# Altium integrated library Transistor.IntLib: 3457 symbols (part 46 of 78)
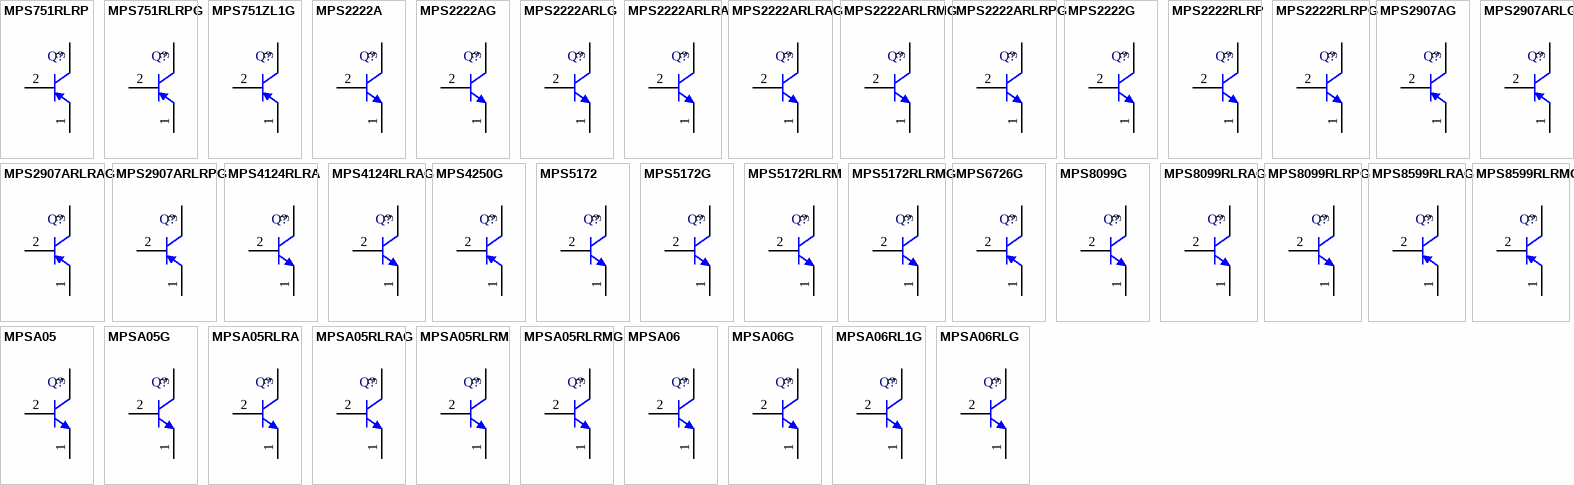
[diagram p139: symbols MPS751RLRP to MPSA06RLG]

## MPSA05G
designator Q?
Amplifier Transistor, 3-Pin TO-92, Pb-Free, Bulk Box; Manufacturer: On Semiconductor; PartNumber: MPSA05G; fT Min (MHz): 100; IC Continuous (A): 0.5; Polarity: NPN; DatasheetVersion: Rev. 3; PackageVersion: Rev. AM; PackageReference: TO-92-3-29-11_AM_SL; PackageDescription: 3-Pin Transistor Outline, Body 4.825 x 3.685 mm, Pitch 1.27 mm; Supplier 1: Digi-Key; Supplier Part Number 1: MPSA05GOS-ND; Supplier 2: Farnell; Supplier Part Number 2: 1147709; Supplier 3: Newark; Supplier Part Number 3: 42K1441; Supplier 4: Mouser; Supplier Part Number 4: 863-MPSA05G; Packing: Bulk Box; RoHS: TRUE; Mounting Technology: Through Hole; ComponentLink1Description: Manufacturer URL; ComponentLink1URL: http://www.onsemi.com/; ComponentLink2Description: Datasheet; ComponentLink2URL: http://www.onsemi.cn/pub_link/Collateral/MPSA05-D.PDF; ComponentLink3Description: Package Specification; ComponentLink3URL: http://www.onsemi.cn/pub_link/Collateral/2N6426-D.PDF
footprint ONSC-TO-92-3-29-11 (TO, 3-Leads, Body Dia 4.7mm, Pitch 1.27mm)
pins: 1 E, 2 B, 3 C

## MPSA05RLRA
designator Q?
Amplifier Transistor, 3-Pin TO-92, Tape and Reel; Manufacturer: On Semiconductor; PartNumber: MPSA05RLRA; fT Min (MHz): 100; IC Continuous (A): 0.5; Polarity: NPN; DatasheetVersion: Rev. 3; PackageVersion: Rev. AM; PackageReference: TO-92-3-29-11_AM_BL; PackageDescription: 3-Pin Transistor Outline, Body 4.825 x 3.685 mm, Pitch 1.27 mm; Supplier 1: Digi-Key; Supplier Part Number 1: MPSA05RLRAOSCT-ND; Packing: Tape and Reel; RoHS: FALSE; Mounting Technology: Through Hole; ComponentLink1Description: Manufacturer URL; ComponentLink1URL: http://www.onsemi.com/; ComponentLink2Description: Datasheet; ComponentLink2URL: http://www.onsemi.cn/pub_link/Collateral/MPSA05-D.PDF; ComponentLink3Description: Package Specification; ComponentLink3URL: http://www.onsemi.com/pub_link/Collateral/MAC97-D.PDF
footprint ONSC-TO-92-3-29-11_AM_BL (TO, 3-Leads, Body Dia 4.7mm, Pitch 2.6mm)
pins: 1 E, 2 B, 3 C

## MPSA05RLRAG
designator Q?
Amplifier Transistor, 3-Pin TO-92, Pb-Free, Tape and Reel; Manufacturer: On Semiconductor; PartNumber: MPSA05RLRAG; fT Min (MHz): 100; IC Continuous (A): 0.5; Polarity: NPN; DatasheetVersion: Rev. 3; PackageVersion: Rev. AM; PackageReference: TO-92-3-29-11_AM_BL; PackageDescription: 3-Pin Transistor Outline, Body 4.825 x 3.685 mm, Pitch 1.27 mm; Supplier 1: Digi-Key; Supplier Part Number 1: MPSA05RLRAGOSTR-ND; Supplier 2: Digi-Key; Supplier Part Number 2: MPSA05RLRAGOSCT-ND; Supplier 3: Farnell; Supplier Part Number 3: 1899540; Supplier 4: Farnell; Supplier Part Number 4: 1273207; Supplier 5: Newark; Supplier Part Number 5: 26K4616; Supplier 6: Newark; Supplier Part Number 6: 84K8804; Supplier 7: Mouser; Supplier Part Number 7: 863-MPSA05RLRAG; Packing: Tape and Reel; RoHS: TRUE; Mounting Technology: Through Hole; ComponentLink1Description: Manufacturer URL; ComponentLink1URL: http://www.onsemi.com/; ComponentLink2Description: Datasheet; ComponentLink2URL: http://www.onsemi.cn/pub_link/Collateral/MPSA05-D.PDF; ComponentLink3Description: Package Specification; ComponentLink3URL: http://www.onsemi.com/pub_link/Collateral/MAC97-D.PDF
footprint ONSC-TO-92-3-29-11_AM_BL (TO, 3-Leads, Body Dia 4.7mm, Pitch 2.6mm)
pins: 1 E, 2 B, 3 C

## MPSA05RLRM
designator Q?
60 V, 0.5 A, Amplifier Transistor, NPN Transistor, 3-Pin TO-92, Ammo Box; Manufacturer: On Semiconductor; PartNumber: MPSA05RLRM; Note: 0; fT Min (MHz): 100; IC Continuous (A): 0.5; DatasheetVersion: Rev. 3; PackageVersion: Rev. AM; PackageReference: TO-92-3-29-11_AM_BL; PackageDescription: 3-Pin Transistor Outline, Body 4.825 x 3.685 mm, Pitch 1.27 mm; Packing: Ammo Box; Polarity: NPN; RoHS: FALSE; Mounting Technology: Through Hole; ComponentLink1Description: Manufacturer URL; ComponentLink1URL: http://www.onsemi.com/; ComponentLink2Description: Datasheet; ComponentLink2URL: http://www.onsemi.cn/pub_link/Collateral/MPSA05-D.PDF; ComponentLink3Description: Package Specification; ComponentLink3URL: http://www.onsemi.com/pub_link/Collateral/MAC97-D.PDF
footprint ONSC-TO-92-3-29-11_AM_BL (TO, 3-Leads, Body Dia 4.7mm, Pitch 2.6mm)
pins: 1 E, 2 B, 3 C

## MPSA05RLRMG
designator Q?
60 V, 0.5 A, Amplifier Transistor, NPN Transistor, 3-Pin TO-92, Pb-Free, Ammo Box; Manufacturer: On Semiconductor; PartNumber: MPSA05RLRMG; fT Min (MHz): 100; IC Continuous (A): 0.5; DatasheetVersion: Rev. 3; PackageVersion: Rev. AM; PackageReference: TO-92-3-29-11_AM_SL; PackageDescription: 3-Pin Transistor Outline, Body 4.825 x 3.685 mm, Pitch 1.27 mm; Supplier 1: Digi-Key; Supplier Part Number 1: MPSA05RLRMGOSTB-ND; Supplier 2: Digi-Key; Supplier Part Number 2: MPSA05RLRMGOSCT-ND; Supplier 3: Mouser; Supplier Part Number 3: 863-MPSA05RLRMG; Packing: Ammo Box; Polarity: NPN; RoHS: TRUE; Mounting Technology: Through Hole; ComponentLink1Description: Manufacturer URL; ComponentLink1URL: http://www.onsemi.com/; ComponentLink2Description: Datasheet; ComponentLink2URL: http://www.onsemi.cn/pub_link/Collateral/MPSA05-D.PDF; ComponentLink3Description: Package Specification; ComponentLink3URL: http://www.onsemi.cn/pub_link/Collateral/2N6426-D.PDF
footprint ONSC-TO-92-3-29-11 (TO, 3-Leads, Body Dia 4.7mm, Pitch 1.27mm)
pins: 1 E, 2 B, 3 C

## MPSA06
designator Q?
Amplifier Transistor, 3-Pin TO-92, Bulk Box; Manufacturer: On Semiconductor; PartNumber: MPSA06; Note: 0; fT Min (MHz): 100; IC Continuous (A): 0.5; Polarity: NPN; DatasheetVersion: Rev. 3; PackageVersion: Rev. AM; PackageReference: TO-92-3-29-11_AM_SL; PackageDescription: 3-Pin Transistor Outline, Body 4.825 x 3.685 mm, Pitch 1.27 mm; Packing: Bulk Box; RoHS: FALSE; Mounting Technology: Through Hole; ComponentLink1Description: Manufacturer URL; ComponentLink1URL: http://www.onsemi.com/; ComponentLink2Description: Datasheet; ComponentLink2URL: http://www.onsemi.cn/pub_link/Collateral/MPSA05-D.PDF; ComponentLink3Description: Package Specification; ComponentLink3URL: http://www.onsemi.cn/pub_link/Collateral/2N6426-D.PDF
footprint ONSC-TO-92-3-29-11 (TO, 3-Leads, Body Dia 4.7mm, Pitch 1.27mm)
pins: 1 E, 2 B, 3 C

## MPSA06G
designator Q?
Amplifier Transistor, 3-Pin TO-92, Pb-Free, Bulk Box; Manufacturer: On Semiconductor; PartNumber: MPSA06G; fT Min (MHz): 100; IC Continuous (A): 0.5; Polarity: NPN; DatasheetVersion: Rev. 3; PackageVersion: Rev. AM; PackageReference: TO-92-3-29-11_AM_SL; PackageDescription: 3-Pin Transistor Outline, Body 4.825 x 3.685 mm, Pitch 1.27 mm; Supplier 1: Digi-Key; Supplier Part Number 1: MPSA06GOS-ND; Supplier 2: Farnell; Supplier Part Number 2: 1126472; Supplier 3: Newark; Supplier Part Number 3: 45J1642; Supplier 4: Mouser; Supplier Part Number 4: 863-MPSA06G; Packing: Bulk Box; RoHS: TRUE; Mounting Technology: Through Hole; ComponentLink1Description: Manufacturer URL; ComponentLink1URL: http://www.onsemi.com/; ComponentLink2Description: Datasheet; ComponentLink2URL: http://www.onsemi.cn/pub_link/Collateral/MPSA05-D.PDF; ComponentLink3Description: Package Specification; ComponentLink3URL: http://www.onsemi.cn/pub_link/Collateral/2N6426-D.PDF
footprint ONSC-TO-92-3-29-11 (TO, 3-Leads, Body Dia 4.7mm, Pitch 1.27mm)
pins: 1 E, 2 B, 3 C

## MPSA06RL1G
designator Q?
Amplifier Transistor, 3-Pin TO-92, Pb-Free, Tape and Reel; Manufacturer: On Semiconductor; PartNumber: MPSA06RL1G; fT Min (MHz): 100; IC Continuous (A): 0.5; Polarity: NPN; DatasheetVersion: Rev. 3; PackageVersion: Rev. AM; PackageReference: TO-92-3-29-11_AM_BL; PackageDescription: 3-Pin Transistor Outline, Body 4.825 x 3.685 mm, Pitch 1.27 mm; Supplier 1: Digi-Key; Supplier Part Number 1: MPSA06RL1GOSTR-ND; Supplier 2: Digi-Key; Supplier Part Number 2: MPSA06RL1GOSCT-ND; Supplier 3: Newark; Supplier Part Number 3: 85W2297; Supplier 4: Mouser; Supplier Part Number 4: 863-MPSA06RL1G; Packing: Tape and Reel; RoHS: TRUE; Mounting Technology: Through Hole; ComponentLink1Description: Manufacturer URL; ComponentLink1URL: http://www.onsemi.com/; ComponentLink2Description: Datasheet; ComponentLink2URL: http://www.onsemi.cn/pub_link/Collateral/MPSA05-D.PDF; ComponentLink3Description: Package Specification; ComponentLink3URL: http://www.onsemi.com/pub_link/Collateral/MAC97-D.PDF
footprint ONSC-TO-92-3-29-11_AM_BL (TO, 3-Leads, Body Dia 4.7mm, Pitch 2.6mm)
pins: 1 E, 2 B, 3 C

## MPSA06RLG
designator Q?
Amplifier Transistor, 3-Pin TO-92, Pb-Free, Tape and Reel; Manufacturer: On Semiconductor; PartNumber: MPSA06RLG; fT Min (MHz): 100; IC Continuous (A): 0.5; Polarity: NPN; DatasheetVersion: Rev. 3; PackageVersion: Rev. AM; PackageReference: TO-92-3-29-11_AM_BL; PackageDescription: 3-Pin Transistor Outline, Body 4.825 x 3.685 mm, Pitch 1.27 mm; Supplier 1: Digi-Key; Supplier Part Number 1: MPSA06RLG-ND; Supplier 2: Newark; Supplier Part Number 2: 42K1442; Supplier 3: Mouser; Supplier Part Number 3: 863-MPSA06RLG; Packing: Tape and Reel; RoHS: TRUE; Mounting Technology: Through Hole; ComponentLink1Description: Manufacturer URL; ComponentLink1URL: http://www.onsemi.com/; ComponentLink2Description: Datasheet; ComponentLink2URL: http://www.onsemi.cn/pub_link/Collateral/MPSA05-D.PDF; ComponentLink3Description: Package Specification; ComponentLink3URL: http://www.onsemi.com/pub_link/Collateral/MAC97-D.PDF
footprint ONSC-TO-92-3-29-11_AM_BL (TO, 3-Leads, Body Dia 4.7mm, Pitch 2.6mm)
pins: 1 E, 2 B, 3 C

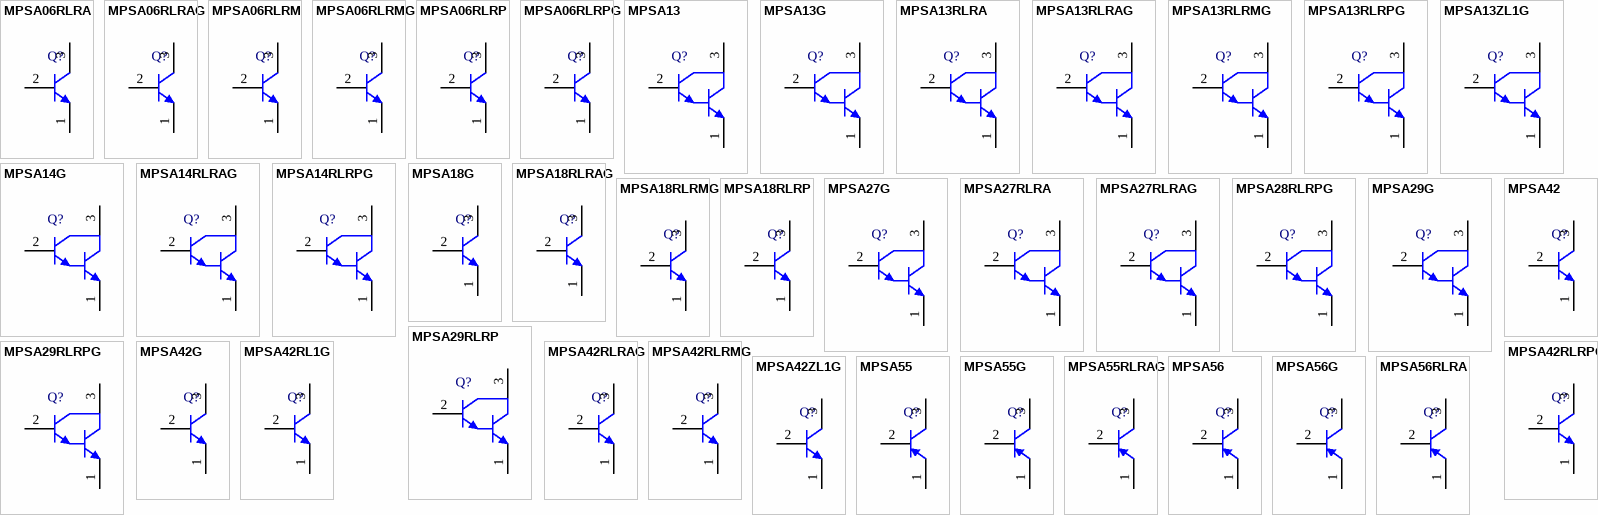
[diagram p54: symbols MPSA06RLRA to MPSA56RLRA]

## MPSA06RLRA
designator Q?
Amplifier Transistor, 3-Pin TO-92, Tape and Reel; Manufacturer: On Semiconductor; PartNumber: MPSA06RLRA; fT Min (MHz): 100; IC Continuous (A): 0.5; Polarity: NPN; DatasheetVersion: Rev. 3; PackageVersion: Rev. AM; PackageReference: TO-92-3-29-11_AM_BL; PackageDescription: 3-Pin Transistor Outline, Body 4.825 x 3.685 mm, Pitch 1.27 mm; Supplier 1: Digi-Key; Supplier Part Number 1: MPSA06RLRAOSCT-ND; Packing: Tape and Reel; RoHS: FALSE; Mounting Technology: Through Hole; ComponentLink1Description: Manufacturer URL; ComponentLink1URL: http://www.onsemi.com/; ComponentLink2Description: Datasheet; ComponentLink2URL: http://www.onsemi.cn/pub_link/Collateral/MPSA05-D.PDF; ComponentLink3Description: Package Specification; ComponentLink3URL: http://www.onsemi.com/pub_link/Collateral/MAC97-D.PDF
footprint ONSC-TO-92-3-29-11_AM_BL (TO, 3-Leads, Body Dia 4.7mm, Pitch 2.6mm)
pins: 1 E, 2 B, 3 C

## MPSA06RLRAG
designator Q?
Amplifier Transistor, 3-Pin TO-92, Pb-Free, Tape and Reel; Manufacturer: On Semiconductor; PartNumber: MPSA06RLRAG; fT Min (MHz): 100; IC Continuous (A): 0.5; Polarity: NPN; DatasheetVersion: Rev. 3; PackageVersion: Rev. AM; PackageReference: TO-92-3-29-11_AM_BL; PackageDescription: 3-Pin Transistor Outline, Body 4.825 x 3.685 mm, Pitch 1.27 mm; Supplier 1: Digi-Key; Supplier Part Number 1: MPSA06RLRAGOSTR-ND; Supplier 2: Digi-Key; Supplier Part Number 2: MPSA06RLRAGOSCT-ND; Supplier 3: Farnell; Supplier Part Number 3: 1150497; Supplier 4: Newark; Supplier Part Number 4: 45J1643; Supplier 5: Newark; Supplier Part Number 5: 67R1380; Supplier 6: Mouser; Supplier Part Number 6: 863-MPSA06RLRAG; Packing: Tape and Reel; RoHS: TRUE; Mounting Technology: Through Hole; ComponentLink1Description: Manufacturer URL; ComponentLink1URL: http://www.onsemi.com/; ComponentLink2Description: Datasheet; ComponentLink2URL: http://www.onsemi.cn/pub_link/Collateral/MPSA05-D.PDF; ComponentLink3Description: Package Specification; ComponentLink3URL: http://www.onsemi.com/pub_link/Collateral/MAC97-D.PDF
footprint ONSC-TO-92-3-29-11_AM_BL (TO, 3-Leads, Body Dia 4.7mm, Pitch 2.6mm)
pins: 1 E, 2 B, 3 C

## MPSA06RLRM
designator Q?
80 V, 0.5 A, Amplifier Transistor, NPN Transistor, 3-Pin TO-92, Ammo Box; Manufacturer: On Semiconductor; PartNumber: MPSA06RLRM; Note: 0; fT Min (MHz): 100; IC Continuous (A): 0.5; DatasheetVersion: Rev. 3; PackageVersion: Rev. AM; PackageReference: TO-92-3-29-11_AM_BL; PackageDescription: 3-Pin Transistor Outline, Body 4.825 x 3.685 mm, Pitch 1.27 mm; Packing: Ammo Box; Polarity: NPN; RoHS: FALSE; Mounting Technology: Through Hole; ComponentLink1Description: Manufacturer URL; ComponentLink1URL: http://www.onsemi.com/; ComponentLink2Description: Datasheet; ComponentLink2URL: http://www.onsemi.cn/pub_link/Collateral/MPSA05-D.PDF; ComponentLink3Description: Package Specification; ComponentLink3URL: http://www.onsemi.com/pub_link/Collateral/MAC97-D.PDF
footprint ONSC-TO-92-3-29-11_AM_BL (TO, 3-Leads, Body Dia 4.7mm, Pitch 2.6mm)
pins: 1 E, 2 B, 3 C

## MPSA06RLRMG
designator Q?
80 V, 0.5 A, Amplifier Transistor, NPN Transistor, 3-Pin TO-92, Pb-Free, Ammo Box; Manufacturer: On Semiconductor; PartNumber: MPSA06RLRMG; fT Min (MHz): 100; IC Continuous (A): 0.5; DatasheetVersion: Rev. 3; PackageVersion: Rev. AM; PackageReference: TO-92-3-29-11_AM_BL; PackageDescription: 3-Pin Transistor Outline, Body 4.825 x 3.685 mm, Pitch 1.27 mm; Supplier 1: Digi-Key; Supplier Part Number 1: MPSA06RLRMGOSTB-ND; Supplier 2: Digi-Key; Supplier Part Number 2: MPSA06RLRMGOSCT-ND; Supplier 3: Newark; Supplier Part Number 3: 71J6097; Supplier 4: Mouser; Supplier Part Number 4: 863-MPSA06RLRMG; Packing: Ammo Box; Polarity: NPN; RoHS: TRUE; Mounting Technology: Through Hole; ComponentLink1Description: Manufacturer URL; ComponentLink1URL: http://www.onsemi.com/; ComponentLink2Description: Datasheet; ComponentLink2URL: http://www.onsemi.cn/pub_link/Collateral/MPSA05-D.PDF; ComponentLink3Description: Package Specification; ComponentLink3URL: http://www.onsemi.com/pub_link/Collateral/MAC97-D.PDF
footprint ONSC-TO-92-3-29-11_AM_BL (TO, 3-Leads, Body Dia 4.7mm, Pitch 2.6mm)
pins: 1 E, 2 B, 3 C

## MPSA06RLRP
designator Q?
80 V, 0.5 A, Amplifier Transistor, NPN Transistor, 3-Pin TO-92, Ammo Box; Manufacturer: On Semiconductor; PartNumber: MPSA06RLRP; Note: 0; fT Min (MHz): 100; IC Continuous (A): 0.5; DatasheetVersion: Rev. 3; PackageVersion: Rev. AM; PackageReference: TO-92-3-29-11_AM_BL; PackageDescription: 3-Pin Transistor Outline, Body 4.825 x 3.685 mm, Pitch 1.27 mm; Packing: Ammo Box; Polarity: NPN; RoHS: FALSE; Mounting Technology: Through Hole; ComponentLink1Description: Manufacturer URL; ComponentLink1URL: http://www.onsemi.com/; ComponentLink2Description: Datasheet; ComponentLink2URL: http://www.onsemi.cn/pub_link/Collateral/MPSA05-D.PDF; ComponentLink3Description: Package Specification; ComponentLink3URL: http://www.onsemi.com/pub_link/Collateral/MAC97-D.PDF
footprint ONSC-TO-92-3-29-11_AM_BL (TO, 3-Leads, Body Dia 4.7mm, Pitch 2.6mm)
pins: 1 E, 2 B, 3 C

## MPSA06RLRPG
designator Q?
80 V, 0.5 A, Amplifier Transistor, NPN Transistor, 3-Pin TO-92, Pb-Free, Ammo Box; Manufacturer: On Semiconductor; PartNumber: MPSA06RLRPG; fT Min (MHz): 100; IC Continuous (A): 0.5; DatasheetVersion: Rev. 3; PackageVersion: Rev. AM; PackageReference: TO-92-3-29-11_AM_BL; PackageDescription: 3-Pin Transistor Outline, Body 4.825 x 3.685 mm, Pitch 1.27 mm; Supplier 1: Digi-Key; Supplier Part Number 1: MPSA06RLRPG-ND; Supplier 2: Mouser; Supplier Part Number 2: 863-MPSA06RLRPG; Packing: Ammo Box; Polarity: NPN; RoHS: TRUE; Mounting Technology: Through Hole; ComponentLink1Description: Manufacturer URL; ComponentLink1URL: http://www.onsemi.com/; ComponentLink2Description: Datasheet; ComponentLink2URL: http://www.onsemi.cn/pub_link/Collateral/MPSA05-D.PDF; ComponentLink3Description: Package Specification; ComponentLink3URL: http://www.onsemi.com/pub_link/Collateral/MAC97-D.PDF
footprint ONSC-TO-92-3-29-11_AM_BL (TO, 3-Leads, Body Dia 4.7mm, Pitch 2.6mm)
pins: 1 E, 2 B, 3 C

## MPSA13
designator Q?
Darlington Transistor, NPN Silicon, 3-Pin TO-92, Bulk Box; Manufacturer: On Semiconductor; PartNumber: MPSA13; Note: 0; IC Continuous (A): 0.5; DatasheetVersion: Rev. 4; PackageVersion: Rev. AM; PackageReference: TO-92-3-29-11_AM_SL; PackageDescription: 3-Pin Transistor Outline, Body 4.825 x 3.685 mm, Pitch 1.27 mm; Packing: Bulk Box; Polarity: NPN; RoHS: FALSE; Mounting Technology: Through Hole; ComponentLink1Description: Manufacturer URL; ComponentLink1URL: http://www.onsemi.com/; ComponentLink2Description: Datasheet; ComponentLink2URL: http://www.onsemi.cn/pub_link/Collateral/MPSA13-D.PDF; ComponentLink3Description: Package Specification; ComponentLink3URL: http://www.onsemi.cn/pub_link/Collateral/2N6426-D.PDF
footprint ONSC-TO-92-3-29-11 (TO, 3-Leads, Body Dia 4.7mm, Pitch 1.27mm)
pins: 1 E, 2 B, 3 C

## MPSA13G
designator Q?
Darlington Transistor, NPN Silicon, 3-Pin TO-92, Pb-Free, Bulk Box; Manufacturer: On Semiconductor; PartNumber: MPSA13G; IC Continuous (A): 0.5; DatasheetVersion: Rev. 4; PackageVersion: Rev. AM; PackageReference: TO-92-3-29-11_AM_SL; PackageDescription: 3-Pin Transistor Outline, Body 4.825 x 3.685 mm, Pitch 1.27 mm; Supplier 1: Digi-Key; Supplier Part Number 1: MPSA13GOS-ND; Supplier 2: Farnell; Supplier Part Number 2: 1459126; Supplier 3: Newark; Supplier Part Number 3: 26K4618; Supplier 4: Mouser; Supplier Part Number 4: 863-MPSA13G; Packing: Bulk Box; Polarity: NPN; RoHS: TRUE; Mounting Technology: Through Hole; ComponentLink1Description: Manufacturer URL; ComponentLink1URL: http://www.onsemi.com/; ComponentLink2Description: Datasheet; ComponentLink2URL: http://www.onsemi.cn/pub_link/Collateral/MPSA13-D.PDF; ComponentLink3Description: Package Specification; ComponentLink3URL: http://www.onsemi.cn/pub_link/Collateral/2N6426-D.PDF
footprint ONSC-TO-92-3-29-11 (TO, 3-Leads, Body Dia 4.7mm, Pitch 1.27mm)
pins: 1 E, 2 B, 3 C

## MPSA13RLRA
designator Q?
Darlington Transistor, NPN Silicon, 3-Pin TO-92, Tape and Reel; Manufacturer: On Semiconductor; PartNumber: MPSA13RLRA; IC Continuous (A): 0.5; DatasheetVersion: Rev. 4; PackageVersion: Rev. AM; PackageReference: TO-92-3-29-11_AM_BL; PackageDescription: 3-Pin Transistor Outline, Body 4.825 x 3.685 mm, Pitch 1.27 mm; Supplier 1: Digi-Key; Supplier Part Number 1: MPSA13RLRAOSTR-ND; Supplier 2: Digi-Key; Supplier Part Number 2: MPSA13RLRAOSCT-ND; Packing: Tape and Reel; Polarity: NPN; RoHS: FALSE; Mounting Technology: Through Hole; ComponentLink1Description: Manufacturer URL; ComponentLink1URL: http://www.onsemi.com/; ComponentLink2Description: Datasheet; ComponentLink2URL: http://www.onsemi.cn/pub_link/Collateral/MPSA13-D.PDF; ComponentLink3Description: Package Specification; ComponentLink3URL: http://www.onsemi.com/pub_link/Collateral/MAC97-D.PDF
footprint ONSC-TO-92-3-29-11_AM_BL (TO, 3-Leads, Body Dia 4.7mm, Pitch 2.6mm)
pins: 1 E, 2 B, 3 C

## MPSA13RLRAG
designator Q?
Darlington Transistor, NPN Silicon, 3-Pin TO-92, Pb-Free, Tape and Reel; Manufacturer: On Semiconductor; PartNumber: MPSA13RLRAG; IC Continuous (A): 0.5; DatasheetVersion: Rev. 4; PackageVersion: Rev. AM; PackageReference: TO-92-3-29-11_AM_BL; PackageDescription: 3-Pin Transistor Outline, Body 4.825 x 3.685 mm, Pitch 1.27 mm; Supplier 1: Digi-Key; Supplier Part Number 1: MPSA13RLRAGOSTR-ND; Supplier 2: Digi-Key; Supplier Part Number 2: MPSA13RLRAGOSCT-ND; Supplier 3: Farnell; Supplier Part Number 3: 2317864; Supplier 4: Farnell; Supplier Part Number 4: 1273208; Supplier 5: Newark; Supplier Part Number 5: 26K4619; Supplier 6: Newark; Supplier Part Number 6: 84K8805; Supplier 7: Mouser; Supplier Part Number 7: 863-MPSA13RLRAG; Packing: Tape and Reel; Polarity: NPN; RoHS: TRUE; Mounting Technology: Through Hole; ComponentLink1Description: Manufacturer URL; ComponentLink1URL: http://www.onsemi.com/; ComponentLink2Description: Datasheet; ComponentLink2URL: http://www.onsemi.cn/pub_link/Collateral/MPSA13-D.PDF; ComponentLink3Description: Package Specification; ComponentLink3URL: http://www.onsemi.com/pub_link/Collateral/MAC97-D.PDF
footprint ONSC-TO-92-3-29-11_AM_BL (TO, 3-Leads, Body Dia 4.7mm, Pitch 2.6mm)
pins: 1 E, 2 B, 3 C

## MPSA13RLRMG
designator Q?
Darlington Transistor, NPN Silicon, 3-Pin TO-92, Pb-Free, Ammo Box; Manufacturer: On Semiconductor; PartNumber: MPSA13RLRMG; IC Continuous (A): 0.5; DatasheetVersion: Rev. 4; PackageVersion: Rev. AM; PackageReference: TO-92-3-29-11_AM_BL; PackageDescription: 3-Pin Transistor Outline, Body 4.825 x 3.685 mm, Pitch 1.27 mm; Supplier 1: Digi-Key; Supplier Part Number 1: MPSA13RLRMGOSTB-ND; Supplier 2: Digi-Key; Supplier Part Number 2: MPSA13RLRMGOSCT-ND; Supplier 3: Mouser; Supplier Part Number 3: 863-MPSA13RLRMG; Packing: Ammo Box; Polarity: NPN; RoHS: TRUE; Mounting Technology: Through Hole; ComponentLink1Description: Manufacturer URL; ComponentLink1URL: http://www.onsemi.com/; ComponentLink2Description: Datasheet; ComponentLink2URL: http://www.onsemi.cn/pub_link/Collateral/MPSA13-D.PDF; ComponentLink3Description: Package Specification; ComponentLink3URL: http://www.onsemi.com/pub_link/Collateral/MAC97-D.PDF
footprint ONSC-TO-92-3-29-11_AM_BL (TO, 3-Leads, Body Dia 4.7mm, Pitch 2.6mm)
pins: 1 E, 2 B, 3 C

## MPSA13RLRPG
designator Q?
Darlington Transistor, NPN Silicon, 3-Pin TO-92, Pb-Free, Ammo Box; Manufacturer: On Semiconductor; PartNumber: MPSA13RLRPG; IC Continuous (A): 0.5; DatasheetVersion: Rev. 4; PackageVersion: Rev. AM; PackageReference: TO-92-3-29-11_AM_BL; PackageDescription: 3-Pin Transistor Outline, Body 4.825 x 3.685 mm, Pitch 1.27 mm; Supplier 1: Digi-Key; Supplier Part Number 1: MPSA13RLRPGOSTB-ND; Supplier 2: Digi-Key; Supplier Part Number 2: MPSA13RLRPGOSCT-ND; Supplier 3: Mouser; Supplier Part Number 3: 863-MPSA13RLRPG; Packing: Ammo Box; Polarity: NPN; RoHS: TRUE; Mounting Technology: Through Hole; ComponentLink1Description: Manufacturer URL; ComponentLink1URL: http://www.onsemi.com/; ComponentLink2Description: Datasheet; ComponentLink2URL: http://www.onsemi.cn/pub_link/Collateral/MPSA13-D.PDF; ComponentLink3Description: Package Specification; ComponentLink3URL: http://www.onsemi.com/pub_link/Collateral/MAC97-D.PDF
footprint ONSC-TO-92-3-29-11_AM_BL (TO, 3-Leads, Body Dia 4.7mm, Pitch 2.6mm)
pins: 1 E, 2 B, 3 C

## MPSA13ZL1G
designator Q?
Darlington Transistor, NPN Silicon, 3-Pin TO-92, Pb-Free, Ammo Box; Manufacturer: On Semiconductor; PartNumber: MPSA13ZL1G; IC Continuous (A): 0.5; DatasheetVersion: Rev. 4; PackageVersion: Rev. AM; PackageReference: TO-92-3-29-11_AM_BL; PackageDescription: 3-Pin Transistor Outline, Body 4.825 x 3.685 mm, Pitch 1.27 mm; Supplier 1: Digi-Key; Supplier Part Number 1: MPSA13ZL1GOSTB-ND; Supplier 2: Digi-Key; Supplier Part Number 2: MPSA13ZL1GOSCT-ND; Supplier 3: Newark; Supplier Part Number 3: 85W2298; Supplier 4: Mouser; Supplier Part Number 4: 863-MPSA13ZL1G; Packing: Ammo Box; Polarity: NPN; RoHS: TRUE; Mounting Technology: Through Hole; ComponentLink1Description: Manufacturer URL; ComponentLink1URL: http://www.onsemi.com/; ComponentLink2Description: Datasheet; ComponentLink2URL: http://www.onsemi.cn/pub_link/Collateral/MPSA13-D.PDF; ComponentLink3Description: Package Specification; ComponentLink3URL: http://www.onsemi.com/pub_link/Collateral/MAC97-D.PDF
footprint ONSC-TO-92-3-29-11_AM_BL (TO, 3-Leads, Body Dia 4.7mm, Pitch 2.6mm)
pins: 1 E, 2 B, 3 C

## MPSA14G
designator Q?
Darlington Transistor, NPN Silicon, 3-Pin TO-92, Pb-Free, Bulk Box; Manufacturer: On Semiconductor; PartNumber: MPSA14G; IC Continuous (A): 0.5; DatasheetVersion: Rev. 4; PackageVersion: Rev. AM; PackageReference: TO-92-3-29-11_AM_SL; PackageDescription: 3-Pin Transistor Outline, Body 4.825 x 3.685 mm, Pitch 1.27 mm; Supplier 1: Digi-Key; Supplier Part Number 1: MPSA14GOS-ND; Supplier 2: Farnell; Supplier Part Number 2: 1125997; Supplier 3: Newark; Supplier Part Number 3: 26K4621; Supplier 4: Mouser; Supplier Part Number 4: 863-MPSA14G; Packing: Bulk Box; Polarity: NPN; RoHS: TRUE; Mounting Technology: Through Hole; ComponentLink1Description: Manufacturer URL; ComponentLink1URL: http://www.onsemi.com/; ComponentLink2Description: Datasheet; ComponentLink2URL: http://www.onsemi.cn/pub_link/Collateral/MPSA13-D.PDF; ComponentLink3Description: Package Specification; ComponentLink3URL: http://www.onsemi.cn/pub_link/Collateral/2N6426-D.PDF
footprint ONSC-TO-92-3-29-11 (TO, 3-Leads, Body Dia 4.7mm, Pitch 1.27mm)
pins: 1 E, 2 B, 3 C

## MPSA14RLRAG
designator Q?
Darlington Transistor, NPN Silicon, 3-Pin TO-92, Pb-Free, Tape and Reel; Manufacturer: On Semiconductor; PartNumber: MPSA14RLRAG; IC Continuous (A): 0.5; DatasheetVersion: Rev. 4; PackageVersion: Rev. AM; PackageReference: TO-92-3-29-11_AM_BL; PackageDescription: 3-Pin Transistor Outline, Body 4.825 x 3.685 mm, Pitch 1.27 mm; Supplier 1: Digi-Key; Supplier Part Number 1: MPSA14RLRAGOSTR-ND; Supplier 2: Digi-Key; Supplier Part Number 2: MPSA14RLRAGOSCT-ND; Supplier 3: Farnell; Supplier Part Number 3: 1260815; Supplier 4: Newark; Supplier Part Number 4: 45J1646; Supplier 5: Mouser; Supplier Part Number 5: 863-MPSA14RLRAG; Packing: Tape and Reel; Polarity: NPN; RoHS: TRUE; Mounting Technology: Through Hole; ComponentLink1Description: Manufacturer URL; ComponentLink1URL: http://www.onsemi.com/; ComponentLink2Description: Datasheet; ComponentLink2URL: http://www.onsemi.cn/pub_link/Collateral/MPSA13-D.PDF; ComponentLink3Description: Package Specification; ComponentLink3URL: http://www.onsemi.com/pub_link/Collateral/MAC97-D.PDF
footprint ONSC-TO-92-3-29-11_AM_BL (TO, 3-Leads, Body Dia 4.7mm, Pitch 2.6mm)
pins: 1 E, 2 B, 3 C

## MPSA14RLRPG
designator Q?
Darlington Transistor, NPN Silicon, 3-Pin TO-92, Pb-Free, Ammo Box; Manufacturer: On Semiconductor; PartNumber: MPSA14RLRPG; IC Continuous (A): 0.5; DatasheetVersion: Rev. 4; PackageVersion: Rev. AM; PackageReference: TO-92-3-29-11_AM_BL; PackageDescription: 3-Pin Transistor Outline, Body 4.825 x 3.685 mm, Pitch 1.27 mm; Supplier 1: Digi-Key; Supplier Part Number 1: MPSA14RLRPG-ND; Supplier 2: Mouser; Supplier Part Number 2: 863-MPSA14RLRPG; Packing: Ammo Box; Polarity: NPN; RoHS: TRUE; Mounting Technology: Through Hole; ComponentLink1Description: Manufacturer URL; ComponentLink1URL: http://www.onsemi.com/; ComponentLink2Description: Datasheet; ComponentLink2URL: http://www.onsemi.cn/pub_link/Collateral/MPSA13-D.PDF; ComponentLink3Description: Package Specification; ComponentLink3URL: http://www.onsemi.com/pub_link/Collateral/MAC97-D.PDF
footprint ONSC-TO-92-3-29-11_AM_BL (TO, 3-Leads, Body Dia 4.7mm, Pitch 2.6mm)
pins: 1 E, 2 B, 3 C

## MPSA18G
designator Q?
Low Noise Transistor, NPN Silicon, 3-Pin TO-92, Pb-Free, Bulk Box; Manufacturer: On Semiconductor; PartNumber: MPSA18G; fT Min (MHz): 100; IC Continuous (A): 0.2; DatasheetVersion: Rev. 4; PackageVersion: Rev. AM; PackageReference: TO-92-3-29-11_AM_SL; PackageDescription: 3-Pin Transistor Outline, Body 4.825 x 3.685 mm, Pitch 1.27 mm; Supplier 1: Digi-Key; Supplier Part Number 1: MPSA18G-ND; Supplier 2: Mouser; Supplier Part Number 2: 863-MPSA18G; Packing: Bulk Box; Polarity: NPN; RoHS: TRUE; Mounting Technology: Through Hole; ComponentLink1Description: Manufacturer URL; ComponentLink1URL: http://www.onsemi.com/; ComponentLink2Description: Datasheet; ComponentLink2URL: http://www.onsemi.cn/pub_link/Collateral/MPSA18-D.PDF; ComponentLink3Description: Package Specification; ComponentLink3URL: http://www.onsemi.cn/pub_link/Collateral/2N6426-D.PDF
footprint ONSC-TO-92-3-29-11 (TO, 3-Leads, Body Dia 4.7mm, Pitch 1.27mm)
pins: 1 E, 2 B, 3 C

## MPSA18RLRAG
designator Q?
Low Noise Transistor, NPN Silicon, 3-Pin TO-92, Pb-Free, Tape and Reel; Manufacturer: On Semiconductor; PartNumber: MPSA18RLRAG; fT Min (MHz): 100; IC Continuous (A): 0.2; DatasheetVersion: Rev. 4; PackageVersion: Rev. AM; PackageReference: TO-92-3-29-11_AM_BL; PackageDescription: 3-Pin Transistor Outline, Body 4.825 x 3.685 mm, Pitch 1.27 mm; Supplier 1: Digi-Key; Supplier Part Number 1: MPSA18RLRAGOSTR-ND; Supplier 2: Digi-Key; Supplier Part Number 2: MPSA18RLRAGOSCT-ND; Supplier 3: Farnell; Supplier Part Number 3: 2317867; Supplier 4: Newark; Supplier Part Number 4: 42K1448; Supplier 5: Newark; Supplier Part Number 5: 84K8806; Supplier 6: Mouser; Supplier Part Number 6: 863-MPSA18RLRAG; Packing: Tape and Reel; Polarity: NPN; RoHS: TRUE; Mounting Technology: Through Hole; ComponentLink1Description: Manufacturer URL; ComponentLink1URL: http://www.onsemi.com/; ComponentLink2Description: Datasheet; ComponentLink2URL: http://www.onsemi.cn/pub_link/Collateral/MPSA18-D.PDF; ComponentLink3Description: Package Specification; ComponentLink3URL: http://www.onsemi.com/pub_link/Collateral/MAC97-D.PDF
footprint ONSC-TO-92-3-29-11_AM_BL (TO, 3-Leads, Body Dia 4.7mm, Pitch 2.6mm)
pins: 1 E, 2 B, 3 C

## MPSA18RLRMG
designator Q?
Low Noise Transistor, NPN Silicon, 3-Pin TO-92, Pb-Free, Ammo Box; Manufacturer: On Semiconductor; PartNumber: MPSA18RLRMG; fT Min (MHz): 100; IC Continuous (A): 0.2; DatasheetVersion: Rev. 4; PackageVersion: Rev. AM; PackageReference: TO-92-3-29-11_AM_BL; PackageDescription: 3-Pin Transistor Outline, Body 4.825 x 3.685 mm, Pitch 1.27 mm; Supplier 1: Digi-Key; Supplier Part Number 1: MPSA18RLRMGOSTB-ND; Supplier 2: Digi-Key; Supplier Part Number 2: MPSA18RLRMGOSCT-ND; Supplier 3: Newark; Supplier Part Number 3: 42K1449; Supplier 4: Mouser; Supplier Part Number 4: 863-MPSA18RLRMG; Packing: Ammo Box; Polarity: NPN; RoHS: TRUE; Mounting Technology: Through Hole; ComponentLink1Description: Manufacturer URL; ComponentLink1URL: http://www.onsemi.com/; ComponentLink2Description: Datasheet; ComponentLink2URL: http://www.onsemi.cn/pub_link/Collateral/MPSA18-D.PDF; ComponentLink3Description: Package Specification; ComponentLink3URL: http://www.onsemi.com/pub_link/Collateral/MAC97-D.PDF
footprint ONSC-TO-92-3-29-11_AM_BL (TO, 3-Leads, Body Dia 4.7mm, Pitch 2.6mm)
pins: 1 E, 2 B, 3 C

## MPSA18RLRP
designator Q?
Low Noise Transistor, NPN Silicon, 3-Pin TO-92, Ammo Box; Manufacturer: On Semiconductor; PartNumber: MPSA18RLRP; fT Min (MHz): 100; IC Continuous (A): 0.2; DatasheetVersion: Rev. 4; PackageVersion: Rev. AM; PackageReference: TO-92-3-29-11_AM_BL; PackageDescription: 3-Pin Transistor Outline, Body 4.825 x 3.685 mm, Pitch 1.27 mm; Supplier 1: Digi-Key; Supplier Part Number 1: MPSA18RLRP-ND; Supplier 2: Mouser; Supplier Part Number 2: 863-MPSA18RLRP; Packing: Ammo Box; Polarity: NPN; RoHS: FALSE; Mounting Technology: Through Hole; ComponentLink1Description: Manufacturer URL; ComponentLink1URL: http://www.onsemi.com/; ComponentLink2Description: Datasheet; ComponentLink2URL: http://www.onsemi.cn/pub_link/Collateral/MPSA18-D.PDF; ComponentLink3Description: Package Specification; ComponentLink3URL: http://www.onsemi.com/pub_link/Collateral/MAC97-D.PDF
footprint ONSC-TO-92-3-29-11_AM_BL (TO, 3-Leads, Body Dia 4.7mm, Pitch 2.6mm)
pins: 1 E, 2 B, 3 C

## MPSA27G
designator Q?
Darlington Transistor, NPN Silicon, 3-Pin TO-92, Pb-Free, Bulk Box; Manufacturer: On Semiconductor; PartNumber: MPSA27G; IC Continuous (A): 0.5; DatasheetVersion: Rev. 4; PackageVersion: Rev. AM; PackageReference: TO-92-3-29-11_AM_SL; PackageDescription: 3-Pin Transistor Outline, Body 4.825 x 3.685 mm, Pitch 1.27 mm; Supplier 1: Digi-Key; Supplier Part Number 1: MPSA27GOS-ND; Supplier 2: Farnell; Supplier Part Number 2: 1147827; Supplier 3: Newark; Supplier Part Number 3: 45J1647; Supplier 4: Mouser; Supplier Part Number 4: 863-MPSA27G; Packing: Bulk Box; Polarity: NPN; RoHS: TRUE; Mounting Technology: Through Hole; ComponentLink1Description: Manufacturer URL; ComponentLink1URL: http://www.onsemi.com/; ComponentLink2Description: Datasheet; ComponentLink2URL: http://www.onsemi.cn/pub_link/Collateral/MPSA27-D.PDF; ComponentLink3Description: Package Specification; ComponentLink3URL: http://www.onsemi.cn/pub_link/Collateral/2N6426-D.PDF
footprint ONSC-TO-92-3-29-11 (TO, 3-Leads, Body Dia 4.7mm, Pitch 1.27mm)
pins: 1 E, 2 B, 3 C

## MPSA27RLRA
designator Q?
Darlington Transistor, NPN Silicon, 3-Pin TO-92, Tape and Reel; Manufacturer: On Semiconductor; PartNumber: MPSA27RLRA; IC Continuous (A): 0.5; DatasheetVersion: Rev. 4; PackageVersion: Rev. AM; PackageReference: TO-92-3-29-11_AM_BL; PackageDescription: 3-Pin Transistor Outline, Body 4.825 x 3.685 mm, Pitch 1.27 mm; Supplier 1: Digi-Key; Supplier Part Number 1: MPSA27RLRAOSCT-ND; Packing: Tape and Reel; Polarity: NPN; RoHS: FALSE; Mounting Technology: Through Hole; ComponentLink1Description: Manufacturer URL; ComponentLink1URL: http://www.onsemi.com/; ComponentLink2Description: Datasheet; ComponentLink2URL: http://www.onsemi.cn/pub_link/Collateral/MPSA27-D.PDF; ComponentLink3Description: Package Specification; ComponentLink3URL: http://www.onsemi.com/pub_link/Collateral/MAC97-D.PDF
footprint ONSC-TO-92-3-29-11_AM_BL (TO, 3-Leads, Body Dia 4.7mm, Pitch 2.6mm)
pins: 1 E, 2 B, 3 C

## MPSA27RLRAG
designator Q?
Darlington Transistor, NPN Silicon, 3-Pin TO-92, Pb-Free, Tape and Reel; Manufacturer: On Semiconductor; PartNumber: MPSA27RLRAG; IC Continuous (A): 0.5; DatasheetVersion: Rev. 4; PackageVersion: Rev. AM; PackageReference: TO-92-3-29-11_AM_BL; PackageDescription: 3-Pin Transistor Outline, Body 4.825 x 3.685 mm, Pitch 1.27 mm; Supplier 1: Digi-Key; Supplier Part Number 1: MPSA27RLRAGOSTR-ND; Supplier 2: Digi-Key; Supplier Part Number 2: MPSA27RLRAGOSCT-ND; Supplier 3: Farnell; Supplier Part Number 3: 1273210; Supplier 4: Mouser; Supplier Part Number 4: 863-MPSA27RLRAG; Packing: Tape and Reel; Polarity: NPN; RoHS: TRUE; Mounting Technology: Through Hole; ComponentLink1Description: Manufacturer URL; ComponentLink1URL: http://www.onsemi.com/; ComponentLink2Description: Datasheet; ComponentLink2URL: http://www.onsemi.cn/pub_link/Collateral/MPSA27-D.PDF; ComponentLink3Description: Package Specification; ComponentLink3URL: http://www.onsemi.com/pub_link/Collateral/MAC97-D.PDF
footprint ONSC-TO-92-3-29-11_AM_BL (TO, 3-Leads, Body Dia 4.7mm, Pitch 2.6mm)
pins: 1 E, 2 B, 3 C

## MPSA28RLRPG
designator Q?
Darlington Transistor, NPN Silicon, 3-Pin TO-92, Pb-Free, Ammo Box; Manufacturer: On Semiconductor; PartNumber: MPSA28RLRPG; IC Continuous (A): 0.5; DatasheetVersion: Rev. 3; PackageVersion: Rev. AM; PackageReference: TO-92-3-29-11_AM_BL; PackageDescription: 3-Pin Transistor Outline, Body 4.825 x 3.685 mm, Pitch 1.27 mm; Supplier 1: Digi-Key; Supplier Part Number 1: MPSA28RLRPG-ND; Supplier 2: Mouser; Supplier Part Number 2: 863-MPSA28RLRPG; Packing: Ammo Box; Polarity: NPN; RoHS: TRUE; Mounting Technology: Through Hole; ComponentLink1Description: Manufacturer URL; ComponentLink1URL: http://www.onsemi.com/; ComponentLink2Description: Datasheet; ComponentLink2URL: http://www.onsemi.cn/pub_link/Collateral/MPSA28-D.PDF; ComponentLink3Description: Package Specification; ComponentLink3URL: http://www.onsemi.com/pub_link/Collateral/MAC97-D.PDF
footprint ONSC-TO-92-3-29-11_AM_BL (TO, 3-Leads, Body Dia 4.7mm, Pitch 2.6mm)
pins: 1 E, 2 B, 3 C

## MPSA29G
designator Q?
Darlington Transistor, NPN Silicon, 3-Pin TO-92, Pb-Free, Bulk Box; Manufacturer: On Semiconductor; PartNumber: MPSA29G; IC Continuous (A): 0.5; DatasheetVersion: Rev. 3; PackageVersion: Rev. AM; PackageReference: TO-92-3-29-11_AM_SL; PackageDescription: 3-Pin Transistor Outline, Body 4.825 x 3.685 mm, Pitch 1.27 mm; Supplier 1: Digi-Key; Supplier Part Number 1: MPSA29GOS-ND; Supplier 2: Farnell; Supplier Part Number 2: 1300633; Supplier 3: Newark; Supplier Part Number 3: 42K1452; Supplier 4: Mouser; Supplier Part Number 4: 863-MPSA29G; Packing: Bulk Box; Polarity: NPN; RoHS: TRUE; Mounting Technology: Through Hole; ComponentLink1Description: Manufacturer URL; ComponentLink1URL: http://www.onsemi.com/; ComponentLink2Description: Datasheet; ComponentLink2URL: http://www.onsemi.cn/pub_link/Collateral/MPSA28-D.PDF; ComponentLink3Description: Package Specification; ComponentLink3URL: http://www.onsemi.cn/pub_link/Collateral/2N6426-D.PDF
footprint ONSC-TO-92-3-29-11 (TO, 3-Leads, Body Dia 4.7mm, Pitch 1.27mm)
pins: 1 E, 2 B, 3 C

## MPSA29RLRP
designator Q?
Darlington Transistor, NPN Silicon, 3-Pin TO-92, Ammo Box; Manufacturer: On Semiconductor; PartNumber: MPSA29RLRP; IC Continuous (A): 0.5; DatasheetVersion: Rev. 3; PackageVersion: Rev. AM; PackageReference: TO-92-3-29-11_AM_BL; PackageDescription: 3-Pin Transistor Outline, Body 4.825 x 3.685 mm, Pitch 1.27 mm; Supplier 1: Digi-Key; Supplier Part Number 1: MPSA29RLRPOSCT-ND; Packing: Ammo Box; Polarity: NPN; RoHS: FALSE; Mounting Technology: Through Hole; ComponentLink1Description: Manufacturer URL; ComponentLink1URL: http://www.onsemi.com/; ComponentLink2Description: Datasheet; ComponentLink2URL: http://www.onsemi.cn/pub_link/Collateral/MPSA28-D.PDF; ComponentLink3Description: Package Specification; ComponentLink3URL: http://www.onsemi.com/pub_link/Collateral/MAC97-D.PDF
footprint ONSC-TO-92-3-29-11_AM_BL (TO, 3-Leads, Body Dia 4.7mm, Pitch 2.6mm)
pins: 1 E, 2 B, 3 C

## MPSA29RLRPG
designator Q?
Darlington Transistor, NPN Silicon, 3-Pin TO-92, Pb-Free, Ammo Box; Manufacturer: On Semiconductor; PartNumber: MPSA29RLRPG; IC Continuous (A): 0.5; DatasheetVersion: Rev. 3; PackageVersion: Rev. AM; PackageReference: TO-92-3-29-11_AM_BL; PackageDescription: 3-Pin Transistor Outline, Body 4.825 x 3.685 mm, Pitch 1.27 mm; Supplier 1: Digi-Key; Supplier Part Number 1: MPSA29RLRPGOSTB-ND; Supplier 2: Digi-Key; Supplier Part Number 2: MPSA29RLRPGOSCT-ND; Supplier 3: Newark; Supplier Part Number 3: 71J6101; Supplier 4: Mouser; Supplier Part Number 4: 863-MPSA29RLRPG; Packing: Ammo Box; Polarity: NPN; RoHS: TRUE; Mounting Technology: Through Hole; ComponentLink1Description: Manufacturer URL; ComponentLink1URL: http://www.onsemi.com/; ComponentLink2Description: Datasheet; ComponentLink2URL: http://www.onsemi.cn/pub_link/Collateral/MPSA28-D.PDF; ComponentLink3Description: Package Specification; ComponentLink3URL: http://www.onsemi.com/pub_link/Collateral/MAC97-D.PDF
footprint ONSC-TO-92-3-29-11_AM_BL (TO, 3-Leads, Body Dia 4.7mm, Pitch 2.6mm)
pins: 1 E, 2 B, 3 C

## MPSA42
designator Q?
High Voltage Transistor, NPN Silicon, 3-Pin TO-92, Bulk Box; Manufacturer: On Semiconductor; PartNumber: MPSA42; Note: 0; fT Min (MHz): 50; IC Continuous (A): 0.5; DatasheetVersion: Rev. 8; PackageVersion: Rev. AM; PackageReference: TO-92-3-29-11_AM_SL; PackageDescription: 3-Pin Transistor Outline, Body 4.825 x 3.685 mm, Pitch 1.27 mm; Packing: Bulk Box; Polarity: NPN; RoHS: FALSE; Mounting Technology: Through Hole; ComponentLink1Description: Manufacturer URL; ComponentLink1URL: http://www.onsemi.com/; ComponentLink2Description: Datasheet; ComponentLink2URL: http://www.onsemi.cn/pub_link/Collateral/MPSA42-D.PDF; ComponentLink3Description: Package Specification; ComponentLink3URL: http://www.onsemi.cn/pub_link/Collateral/2N6426-D.PDF
footprint ONSC-TO-92-3-29-11 (TO, 3-Leads, Body Dia 4.7mm, Pitch 1.27mm)
pins: 1 E, 2 B, 3 C

## MPSA42G
designator Q?
High Voltage Transistor, NPN Silicon, 3-Pin TO-92, Pb-Free, Bulk Box; Manufacturer: On Semiconductor; PartNumber: MPSA42G; fT Min (MHz): 50; IC Continuous (A): 0.5; DatasheetVersion: Rev. 8; PackageVersion: Rev. AM; PackageReference: TO-92-3-29-11_AM_SL; PackageDescription: 3-Pin Transistor Outline, Body 4.825 x 3.685 mm, Pitch 1.27 mm; Supplier 1: Digi-Key; Supplier Part Number 1: MPSA42GOS-ND; Supplier 2: Farnell; Supplier Part Number 2: 2101805; Supplier 3: Newark; Supplier Part Number 3: 45J1648; Supplier 4: Mouser; Supplier Part Number 4: 863-MPSA42G; Packing: Bulk Box; Polarity: NPN; RoHS: TRUE; Mounting Technology: Through Hole; ComponentLink1Description: Manufacturer URL; ComponentLink1URL: http://www.onsemi.com/; ComponentLink2Description: Datasheet; ComponentLink2URL: http://www.onsemi.cn/pub_link/Collateral/MPSA42-D.PDF; ComponentLink3Description: Package Specification; ComponentLink3URL: http://www.onsemi.cn/pub_link/Collateral/2N6426-D.PDF
footprint ONSC-TO-92-3-29-11 (TO, 3-Leads, Body Dia 4.7mm, Pitch 1.27mm)
pins: 1 E, 2 B, 3 C

## MPSA42RL1G
designator Q?
High Voltage Transistor, NPN Silicon, 3-Pin TO-92, Pb-Free, Tape and Reel; Manufacturer: On Semiconductor; PartNumber: MPSA42RL1G; fT Min (MHz): 50; IC Continuous (A): 0.5; DatasheetVersion: Rev. 8; PackageVersion: Rev. AM; PackageReference: TO-92-3-29-11_AM_BL; PackageDescription: 3-Pin Transistor Outline, Body 4.825 x 3.685 mm, Pitch 1.27 mm; Supplier 1: Digi-Key; Supplier Part Number 1: MPSA42RL1GOSTR-ND; Supplier 2: Digi-Key; Supplier Part Number 2: MPSA42RL1GOSCT-ND; Supplier 3: Newark; Supplier Part Number 3: 26K4624; Supplier 4: Mouser; Supplier Part Number 4: 863-MPSA42RL1G; Packing: Tape and Reel; Polarity: NPN; RoHS: TRUE; Mounting Technology: Through Hole; ComponentLink1Description: Manufacturer URL; ComponentLink1URL: http://www.onsemi.com/; ComponentLink2Description: Datasheet; ComponentLink2URL: http://www.onsemi.cn/pub_link/Collateral/MPSA42-D.PDF; ComponentLink3Description: Package Specification; ComponentLink3URL: http://www.onsemi.com/pub_link/Collateral/MAC97-D.PDF
footprint ONSC-TO-92-3-29-11_AM_BL (TO, 3-Leads, Body Dia 4.7mm, Pitch 2.6mm)
pins: 1 E, 2 B, 3 C

## MPSA42RLRAG
designator Q?
High Voltage Transistor, NPN Silicon, 3-Pin TO-92, Pb-Free, Tape and Reel; Manufacturer: On Semiconductor; PartNumber: MPSA42RLRAG; fT Min (MHz): 50; IC Continuous (A): 0.5; DatasheetVersion: Rev. 8; PackageVersion: Rev. AM; PackageReference: TO-92-3-29-11_AM_BL; PackageDescription: 3-Pin Transistor Outline, Body 4.825 x 3.685 mm, Pitch 1.27 mm; Supplier 1: Digi-Key; Supplier Part Number 1: MPSA42RLRAGOSTR-ND; Supplier 2: Digi-Key; Supplier Part Number 2: MPSA42RLRAGOSCT-ND; Supplier 3: Farnell; Supplier Part Number 3: 1878533; Supplier 4: Farnell; Supplier Part Number 4: 1273211; Supplier 5: Newark; Supplier Part Number 5: 42K1453; Supplier 6: Newark; Supplier Part Number 6: 84K8808; Supplier 7: Mouser; Supplier Part Number 7: 863-MPSA42RLRAG; Packing: Tape and Reel; Polarity: NPN; RoHS: TRUE; Mounting Technology: Through Hole; ComponentLink1Description: Manufacturer URL; ComponentLink1URL: http://www.onsemi.com/; ComponentLink2Description: Datasheet; ComponentLink2URL: http://www.onsemi.cn/pub_link/Collateral/MPSA42-D.PDF; ComponentLink3Description: Package Specification; ComponentLink3URL: http://www.onsemi.com/pub_link/Collateral/MAC97-D.PDF
footprint ONSC-TO-92-3-29-11_AM_BL (TO, 3-Leads, Body Dia 4.7mm, Pitch 2.6mm)
pins: 1 E, 2 B, 3 C

## MPSA42RLRMG
designator Q?
High Voltage Transistor, NPN Silicon, 3-Pin TO-92, Pb-Free, Ammo Box; Manufacturer: On Semiconductor; PartNumber: MPSA42RLRMG; fT Min (MHz): 50; IC Continuous (A): 0.5; DatasheetVersion: Rev. 8; PackageVersion: Rev. AM; PackageReference: TO-92-3-29-11_AM_BL; PackageDescription: 3-Pin Transistor Outline, Body 4.825 x 3.685 mm, Pitch 1.27 mm; Supplier 1: Digi-Key; Supplier Part Number 1: MPSA42RLRMGOSTB-ND; Supplier 2: Digi-Key; Supplier Part Number 2: MPSA42RLRMGOSCT-ND; Supplier 3: Newark; Supplier Part Number 3: 26K4623; Supplier 4: Mouser; Supplier Part Number 4: 863-MPSA42RLRMG; Packing: Ammo Box; Polarity: NPN; RoHS: TRUE; Mounting Technology: Through Hole; ComponentLink1Description: Manufacturer URL; ComponentLink1URL: http://www.onsemi.com/; ComponentLink2Description: Datasheet; ComponentLink2URL: http://www.onsemi.cn/pub_link/Collateral/MPSA42-D.PDF; ComponentLink3Description: Package Specification; ComponentLink3URL: http://www.onsemi.com/pub_link/Collateral/MAC97-D.PDF
footprint ONSC-TO-92-3-29-11_AM_BL (TO, 3-Leads, Body Dia 4.7mm, Pitch 2.6mm)
pins: 1 E, 2 B, 3 C

## MPSA42RLRPG
designator Q?
High Voltage Transistor, NPN Silicon, 3-Pin TO-92, Pb-Free, Ammo Box; Manufacturer: On Semiconductor; PartNumber: MPSA42RLRPG; fT Min (MHz): 50; IC Continuous (A): 0.5; DatasheetVersion: Rev. 8; PackageVersion: Rev. AM; PackageReference: TO-92-3-29-11_AM_BL; PackageDescription: 3-Pin Transistor Outline, Body 4.825 x 3.685 mm, Pitch 1.27 mm; Supplier 1: Digi-Key; Supplier Part Number 1: MPSA42RLRPGOSTB-ND; Supplier 2: Digi-Key; Supplier Part Number 2: MPSA42RLRPGOSCT-ND; Supplier 3: Farnell; Supplier Part Number 3: 9558535; Supplier 4: Newark; Supplier Part Number 4: 10N9532; Supplier 5: Mouser; Supplier Part Number 5: 863-MPSA42RLRPG; Packing: Ammo Box; Polarity: NPN; RoHS: TRUE; Mounting Technology: Through Hole; ComponentLink1Description: Manufacturer URL; ComponentLink1URL: http://www.onsemi.com/; ComponentLink2Description: Datasheet; ComponentLink2URL: http://www.onsemi.cn/pub_link/Collateral/MPSA42-D.PDF; ComponentLink3Description: Package Specification; ComponentLink3URL: http://www.onsemi.com/pub_link/Collateral/MAC97-D.PDF
footprint ONSC-TO-92-3-29-11_AM_BL (TO, 3-Leads, Body Dia 4.7mm, Pitch 2.6mm)
pins: 1 E, 2 B, 3 C

## MPSA42ZL1G
designator Q?
High Voltage Transistor, NPN Silicon, 3-Pin TO-92, Pb-Free, Ammo Box; Manufacturer: On Semiconductor; PartNumber: MPSA42ZL1G; fT Min (MHz): 50; IC Continuous (A): 0.5; DatasheetVersion: Rev. 8; PackageVersion: Rev. AM; PackageReference: TO-92-3-29-11_AM_BL; PackageDescription: 3-Pin Transistor Outline, Body 4.825 x 3.685 mm, Pitch 1.27 mm; Supplier 1: Digi-Key; Supplier Part Number 1: MPSA42ZL1GOSTB-ND; Supplier 2: Digi-Key; Supplier Part Number 2: MPSA42ZL1GOSCT-ND; Supplier 3: Newark; Supplier Part Number 3: 26K4625; Supplier 4: Mouser; Supplier Part Number 4: 863-MPSA42ZL1G; Packing: Ammo Box; Polarity: NPN; RoHS: TRUE; Mounting Technology: Through Hole; ComponentLink1Description: Manufacturer URL; ComponentLink1URL: http://www.onsemi.com/; ComponentLink2Description: Datasheet; ComponentLink2URL: http://www.onsemi.cn/pub_link/Collateral/MPSA42-D.PDF; ComponentLink3Description: Package Specification; ComponentLink3URL: http://www.onsemi.com/pub_link/Collateral/MAC97-D.PDF
footprint ONSC-TO-92-3-29-11_AM_BL (TO, 3-Leads, Body Dia 4.7mm, Pitch 2.6mm)
pins: 1 E, 2 B, 3 C

## MPSA55
designator Q?
60 V, 0.5 A, Amplifier Transistor, PNP Transistor, 3-Pin TO-92, Bulk Box; Manufacturer: On Semiconductor; PartNumber: MPSA55; fT Min (MHz): 50; IC Continuous (A): 0.5; DatasheetVersion: Rev. 3; PackageVersion: Rev. AM; PackageReference: TO-92-3-29-11_AM_SL; PackageDescription: 3-Pin Transistor Outline, Body 4.825 x 3.685 mm, Pitch 1.27 mm; Supplier 1: Digi-Key; Supplier Part Number 1: MPSA55OS-ND; Packing: Bulk Box; Polarity: PNP; RoHS: FALSE; Mounting Technology: Through Hole; ComponentLink1Description: Manufacturer URL; ComponentLink1URL: http://www.onsemi.com/; ComponentLink2Description: Datasheet; ComponentLink2URL: http://www.onsemi.cn/pub_link/Collateral/MPSA05-D.PDF; ComponentLink3Description: Package Specification; ComponentLink3URL: http://www.onsemi.cn/pub_link/Collateral/2N6426-D.PDF
footprint ONSC-TO-92-3-29-11 (TO, 3-Leads, Body Dia 4.7mm, Pitch 1.27mm)
pins: 1 E, 2 B, 3 C

## MPSA55G
designator Q?
60 V, 0.5 A, Amplifier Transistor, PNP Transistor, 3-Pin TO-92, Pb-Free, Bulk Box; Manufacturer: On Semiconductor; PartNumber: MPSA55G; fT Min (MHz): 50; IC Continuous (A): 0.5; DatasheetVersion: Rev. 3; PackageVersion: Rev. AM; PackageReference: TO-92-3-29-11_AM_SL; PackageDescription: 3-Pin Transistor Outline, Body 4.825 x 3.685 mm, Pitch 1.27 mm; Supplier 1: Digi-Key; Supplier Part Number 1: MPSA55GOS-ND; Supplier 2: Farnell; Supplier Part Number 2: 1125998; Supplier 3: Newark; Supplier Part Number 3: 26K4627; Supplier 4: Mouser; Supplier Part Number 4: 863-MPSA55G; Packing: Bulk Box; Polarity: PNP; RoHS: TRUE; Mounting Technology: Through Hole; ComponentLink1Description: Manufacturer URL; ComponentLink1URL: http://www.onsemi.com/; ComponentLink2Description: Datasheet; ComponentLink2URL: http://www.onsemi.cn/pub_link/Collateral/MPSA05-D.PDF; ComponentLink3Description: Package Specification; ComponentLink3URL: http://www.onsemi.cn/pub_link/Collateral/2N6426-D.PDF
footprint ONSC-TO-92-3-29-11 (TO, 3-Leads, Body Dia 4.7mm, Pitch 1.27mm)
pins: 1 E, 2 B, 3 C

## MPSA55RLRAG
designator Q?
60 V, 0.5 A, Amplifier Transistor, PNP Transistor, 3-Pin TO-92, Pb-Free, Tape and Reel; Manufacturer: On Semiconductor; PartNumber: MPSA55RLRAG; fT Min (MHz): 50; IC Continuous (A): 0.5; DatasheetVersion: Rev. 3; PackageVersion: Rev. AM; PackageReference: TO-92-3-29-11_AM_BL; PackageDescription: 3-Pin Transistor Outline, Body 4.825 x 3.685 mm, Pitch 1.27 mm; Supplier 1: Digi-Key; Supplier Part Number 1: MPSA55RLRAGOSTR-ND; Supplier 2: Digi-Key; Supplier Part Number 2: MPSA55RLRAGOSCT-ND; Supplier 3: Newark; Supplier Part Number 3: 45J1653; Supplier 4: Mouser; Supplier Part Number 4: 863-MPSA55RLRAG; Packing: Tape and Reel; Polarity: PNP; RoHS: TRUE; Mounting Technology: Through Hole; ComponentLink1Description: Manufacturer URL; ComponentLink1URL: http://www.onsemi.com/; ComponentLink2Description: Datasheet; ComponentLink2URL: http://www.onsemi.cn/pub_link/Collateral/MPSA05-D.PDF; ComponentLink3Description: Package Specification; ComponentLink3URL: http://www.onsemi.com/pub_link/Collateral/MAC97-D.PDF
footprint ONSC-TO-92-3-29-11_AM_BL (TO, 3-Leads, Body Dia 4.7mm, Pitch 2.6mm)
pins: 1 E, 2 B, 3 C

## MPSA56
designator Q?
80 V, 0.5 A, Amplifier Transistor, PNP Transistor, 3-Pin TO-92, Bulk Box; Manufacturer: On Semiconductor; PartNumber: MPSA56; Note: 0; fT Min (MHz): 50; IC Continuous (A): 0.5; DatasheetVersion: Rev. 3; PackageVersion: Rev. AM; PackageReference: TO-92-3-29-11_AM_SL; PackageDescription: 3-Pin Transistor Outline, Body 4.825 x 3.685 mm, Pitch 1.27 mm; Packing: Bulk Box; Polarity: PNP; RoHS: FALSE; Mounting Technology: Through Hole; ComponentLink1Description: Manufacturer URL; ComponentLink1URL: http://www.onsemi.com/; ComponentLink2Description: Datasheet; ComponentLink2URL: http://www.onsemi.cn/pub_link/Collateral/MPSA05-D.PDF; ComponentLink3Description: Package Specification; ComponentLink3URL: http://www.onsemi.cn/pub_link/Collateral/2N6426-D.PDF
footprint ONSC-TO-92-3-29-11 (TO, 3-Leads, Body Dia 4.7mm, Pitch 1.27mm)
pins: 1 E, 2 B, 3 C